# EAGLE library part PMU_IP2716 (library akita)
Injoinic, USB-C PD, DFP/UFP
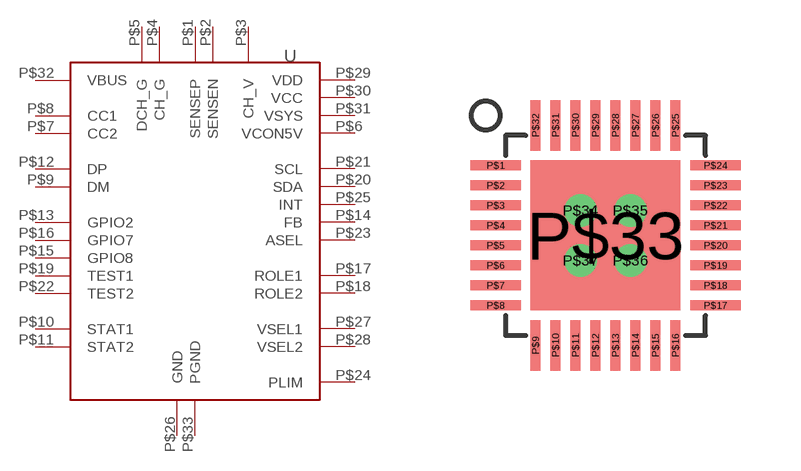
[diagram p199: symbol with the pads of QFN32E; footprint QFN32E]

Designator prefix U

## PMU_IP2716  [QFN32E]
P$1  SENSEP
P$2  SENSEN
P$3  CH_V
P$4  CH_G
P$5  DCH_G
P$6  VCON5V
P$7  CC2
P$8  CC1
P$9  DM
P$10  STAT1
P$11  STAT2
P$12  DP
P$13  GPIO2
P$14  FB
P$15  GPIO8
P$16  GPIO7
P$17  ROLE1
P$18  ROLE2
P$19  TEST1
P$20  SDA
P$21  SCL
P$22  TEST2
P$23  ASEL
P$24  PLIM
P$25  INT
P$26  GND
P$27  VSEL1
P$28  VSEL2
P$29  VDD
P$30  VCC
P$31  VSYS
P$32  VBUS
P$33  PGND

## Footprint QFN32E (pad centres in mm)
QFN32 w/ Exposed Pad
smd 1.27 x 0.25: P$1 -2.75,1.75; P$2 -2.75,1.25; P$3 -2.75,0.75; P$4 -2.75,0.25; P$5 -2.75,-0.25; P$6 -2.75,-0.75; P$7 -2.75,-1.25; P$8 -2.75,-1.75; P$17 2.75,-1.75; P$18 2.75,-1.25; P$19 2.75,-0.75; P$20 2.75,-0.25; P$21 2.75,0.25; P$22 2.75,0.75; P$23 2.75,1.25; P$24 2.75,1.75
smd 0.25 x 1.27: P$9 -1.75,-2.75; P$10 -1.25,-2.75; P$11 -0.75,-2.75; P$12 -0.25,-2.75; P$13 0.25,-2.75; P$14 0.75,-2.75; P$15 1.25,-2.75; P$16 1.75,-2.75; P$25 1.75,2.75; P$26 1.25,2.75; P$27 0.75,2.75; P$28 0.25,2.75; P$29 -0.25,2.75; P$30 -0.75,2.75; P$31 -1.25,2.75; P$32 -1.75,2.75
smd 3.75 x 3.75: P$33 0,0
drill 0.3 pad 0.6: P$34 -0.625,0.625; P$35 0.625,0.625; P$36 0.625,-0.625; P$37 -0.625,-0.625